# EAGLE library part GD25LQ128E (library ICs)
FLASH - NOR Memory IC 128Mbit SPI - Quad I/O 120 MHz 7 ns 8-SOP
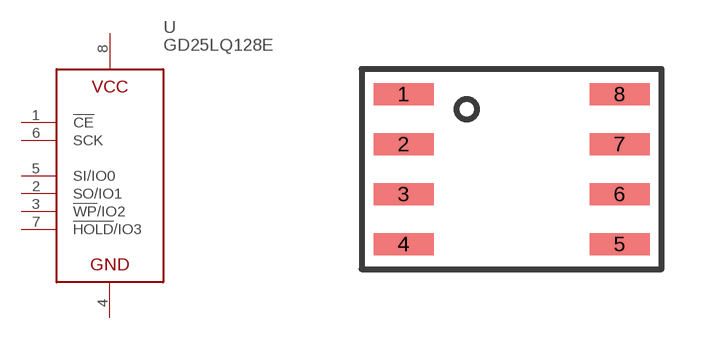
[diagram p318: symbol with the pads of SO8; footprint SO8]

Designator prefix U

## GD25LQ128ESIGR (DIGIKEY: 1970-GD25LQ128ESIGRCT-ND; HEIGHT: 2; PRICE_PER: 1.71; VALUE: GD25LQ128E)  [SO8]
1  !CE
2  SO/IO1
3  !WP!/IO2
4  GND
5  SI/IO0
6  SCK
7  !HOLD!/IO3
8  VCC

## Footprint SO8 (pad centres in mm)
smd 1.5 x 0.55: 1 -2.7,1.875; 2 -2.7,0.625; 3 -2.7,-0.625; 4 -2.7,-1.875; 5 2.7,-1.875; 6 2.7,-0.625; 7 2.7,0.625; 8 2.7,1.875